# EAGLE library part IC_TPS63000 (library 0kaz)
Buck-Boost DC-DC converter with 1.8A switches from Texas Instruments.
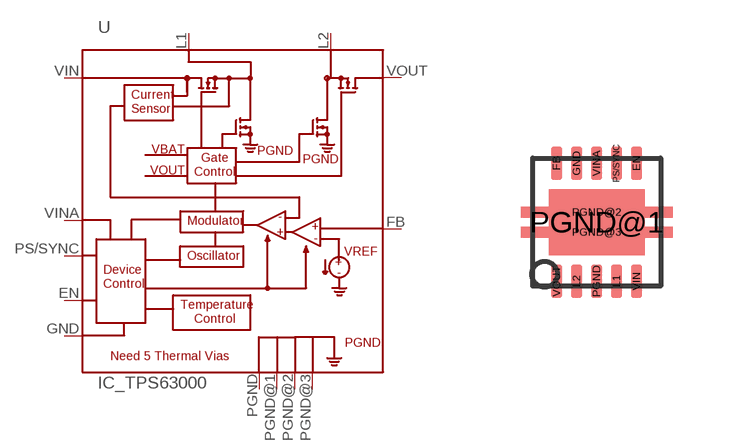
[diagram p3: symbol with the pads of SON-10; footprint SON-10]

Designator prefix -

## IC_TPS63000  [SON-10]
EN  EN  in
FB  FB  in
GND  GND  in
L1  L1
L2  L2
PGND  PGND  in
PGND@1  PGND  in
PGND@2  PGND  in
PGND@3  PGND  in
PS/SYNC  PS/SYNC  in
VIN  VIN  in
VINA  VINA  in
VOUT  VOUT  sup

## Footprint SON-10 (pad centres in mm)
DRC (S-PVSON-N10) Source: www.TI.com TPS63000 Datasheet This is package is used for the TPS63000 series Buck Boost DC-DC converters
smd 0.28 x 0.85: EN 1,1.475; FB -1,1.475; GND -0.5,1.475; L1 0.5,-1.475; L2 -0.5,-1.475; PGND 0,-1.475; PS/SYNC 0.5,1.475; VIN 1,-1.475; VINA 0,1.475; VOUT -1,-1.475
smd 2.4 x 1.65: PGND@1 0,0
smd 3.8 x 0.28: PGND@2 0,0.25; PGND@3 0,-0.25